# Altium schematic symbol library SCHOTTKY-DIODESMC.Schlib: 1 symbol
Pins are listed as number, name and electrical type; pins without a type are passive.

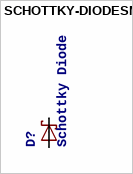
[diagram p0: symbol SCHOTTKY-DIODESMC]

## SCHOTTKY-DIODESMC
designator D?, comment Schottky Diode
SPICEMODEL: NONE; SPICEPREFIX: D; SPICETYPE: diode
footprint DIODE_SMC
pins: A C, C A